# Altium schematic symbol library NCD57084DR2G.SchLib: 1 symbol
Pins are listed as number, name and electrical type; pins without a type are passive.

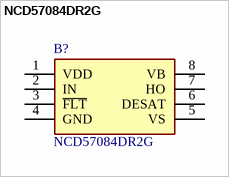
[diagram p0: symbol NCD57084DR2G]

## NCD57084DR2G
designator B?
High Peak Output Current (+7 A/-7 A); Short Propagation Delays with Accurate Matching; High Transient & Electromagnetic Immunity; 2.5 KVrms On-Chip Galvanic Isolation; Wide Bias Voltage Ranges and Input Voltage Range; Manufacturer_Name: onsemi; Geometry.Height: 1.75mm; Mouser Part Number: 863-NCD57084DR2G; Mouser Price/Stock: https://www.mouser.co.uk/ProductDetail/onsemi/NCD57084DR2G?qs=iLbezkQI%252BshVJf1cw%252BEJ9A%3D%3D; Manufacturer_Part_Number: NCD57084DR2G; Datasheet Link: https://www.onsemi.com/pub/Collateral/NCD57084-D.PDF
footprint SOIC127P600X175-8N
pins: 1 VDD, 2 IN, 3 ~{FLT}, 4 GND, 5 VS, 6 DESAT, 7 HO, 8 VB